# Altium schematic symbol library cel-opto.SchLib: 1 symbol
Pins are listed as number, name and electrical type; pins without a type are passive.

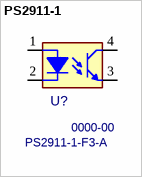
[diagram p0: symbol PS2911-1]

## PS2911-1
designator U?, comment 0000-00  value PS2911-1-F3-A
SMD Photocoupler; MFG: CEL; PN: 0000-00; ExtraInfo: *
footprint PS2911
pins: 1 A "Anode", 2 K "Cathode", 3 E "Emitter", 4 C "Collector"